# Altium footprint library FootPrintLib_2.PcbLib: 173 footprints (part 7 of 11)
Each footprint in its own frame and in the unit in brackets; x right, y up, seen from the top. Pads: shape width x height; smd on the part's side, far side on the other; paste and mask are expansions set on the pad; w line width, h text height; cw(c..) or ccw(c..) is an arc to the next point about the centre after c.
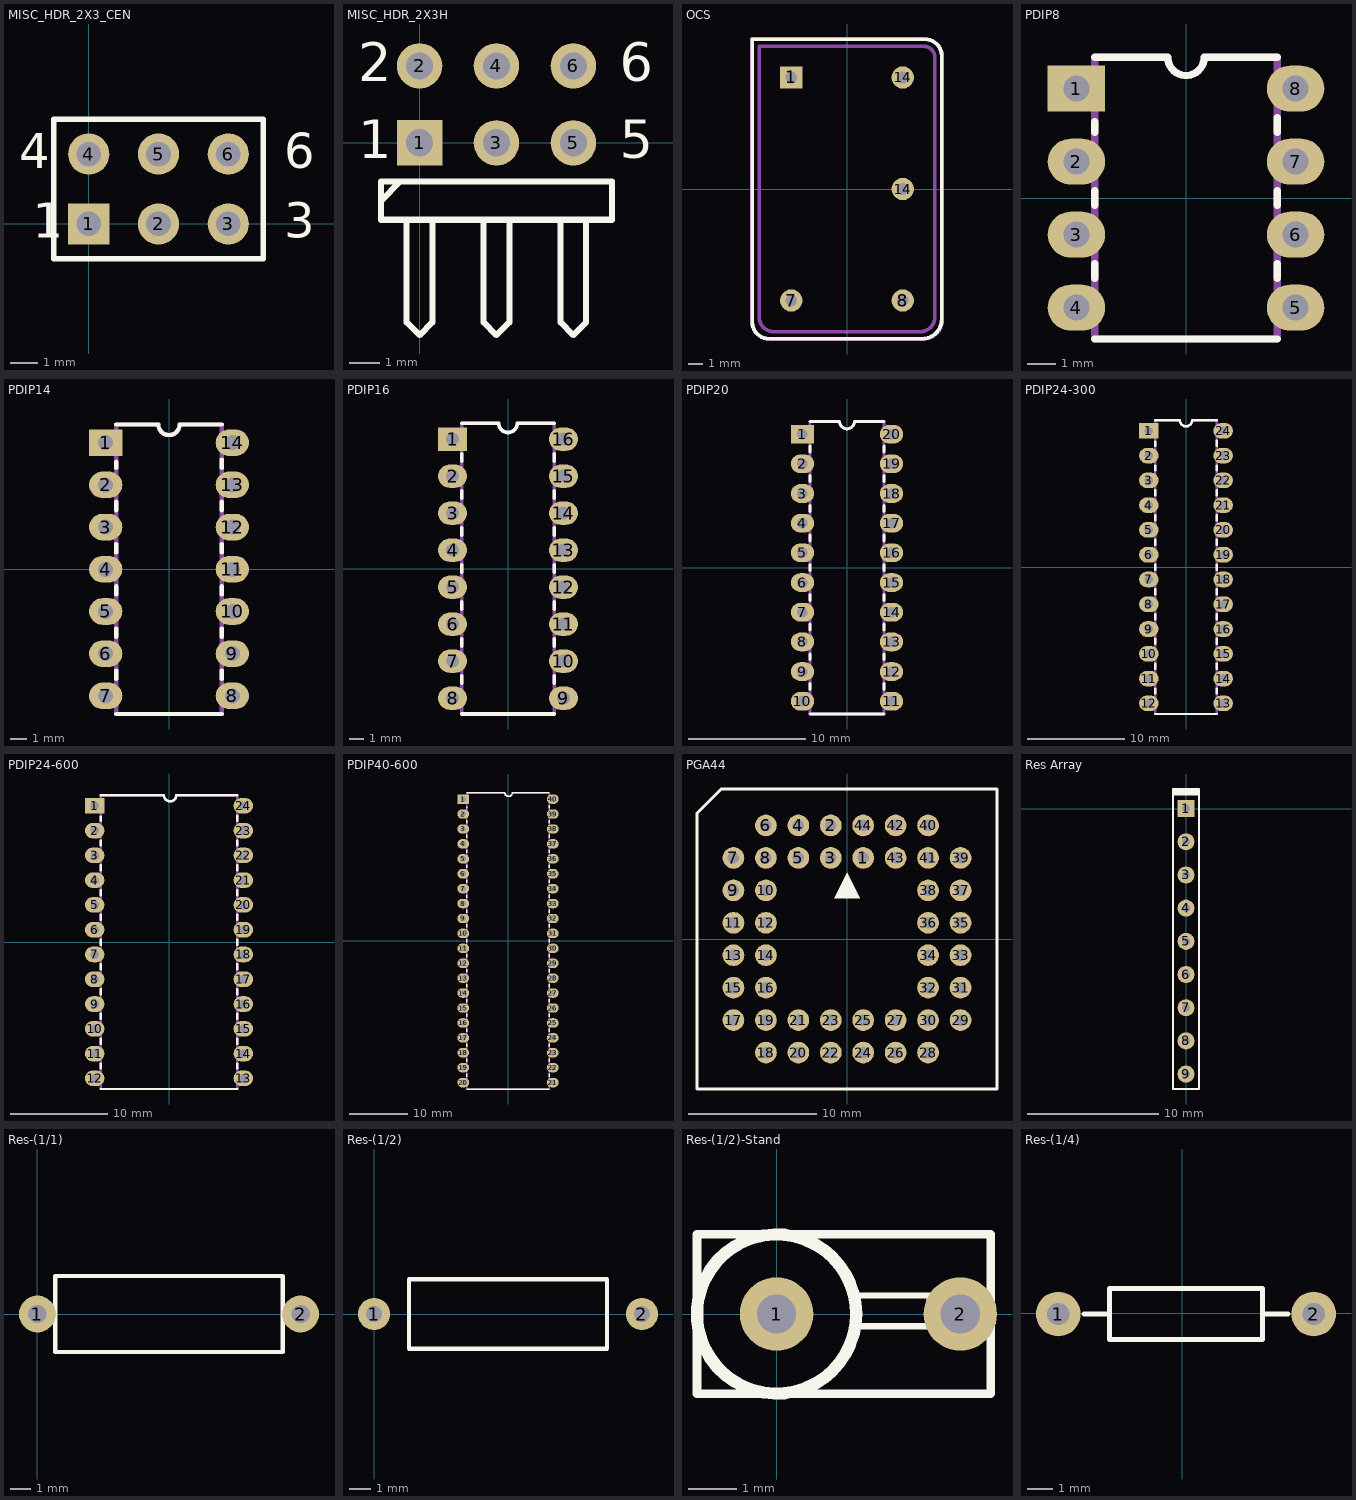
[diagram p6: the footprints below, top view; thin cyan lines are the x and y axes]

## MISC_HDR_2X3_CEN [mm] "Connector; Header; 3x2 Position"
pads (6):
  rect 1.5x1.5 hole 0.9: 1(0,0)
  round 1.5 hole 0.9: 2(2.54,0) 3(5.08,0) 4(0,2.54) 5(2.54,2.54) 6(5.08,2.54)
Top Overlay:
  lines w0.2: -1.27,-1.27 6.35,-1.27 6.35,3.81 -1.27,3.81 -1.27,-1.27
  text "6" at 7.112,2.032 h1.27
  text "3" at 7.112,-0.508 h1.27
  text "1" at -2.032,-0.508 h1.27
  text "4" at -2.54,2.032 h1.27
3D body "Header3.STEP": height 8.38, standoff -2.54, extent -1.27,-1.27 6.35,1.27
3D body "Header3.STEP": height 8.38, standoff -2.54, extent -1.27,1.27 6.35,3.81

## MISC_HDR_2X3H [mm] "Connector; Header; 3x2 Position; Right Angle"
pads (6):
  rect 1.5x1.5 hole 0.9: 1(0,0)
  round 1.5 hole 0.9: 2(0,2.54) 3(2.54,0) 4(2.54,2.54) 5(5.08,0) 6(5.08,2.54)
Top Overlay:
  lines w0.2: -1.27,-1.905 -0.635,-1.27 ; -0.423,-2.54 -0.423,-5.927 0,-6.35 0.423,-5.927 0.423,-2.54 ; 2.117,-2.54 2.117,-5.927 2.54,-6.35 2.963,-5.927 2.963,-2.54 ; 4.657,-2.54 4.657,-5.927 5.08,-6.35 5.503,-5.927 5.503,-2.54 ; -1.27,-2.54 -1.27,-1.27 6.35,-1.27 6.35,-2.54 -1.27,-2.54
  text "6" at 6.604,2.032 h1.27
  text "5" at 6.604,-0.508 h1.27
  text "1" at -2.032,-0.508 h1.27
  text "2" at -2.032,2.032 h1.27

## OCS [mil]
pads (5):
  rect 60x60 hole 32: 1(-150,300)
  round 60 hole 32: 7(-150,-300) 8(150,-300) 14(150,0) 14(150,300)
Top Overlay:
  lines w10: -255,-358 ccw(c-210,-358) -210,-403 202,-403 ccw(c202,-350) 255,-350 255,350 255,358 ccw(c210,358) 210,403 -210,403 -255,403 -255,350 -255,-350 -255,-358
Mechanical 1:
  circle w10: c-150,-300 r10
  circle w10: c150,-300 r10
  circle w10: c150,300 r10
  circle w10: c-150,300 r10
  lines w10: -255.91,-354.33 ccw(c-206.69,-354.33) -206.69,-403.54 206.69,-403.54 ccw(c206.69,-354.33) 255.91,-354.33 255.91,354.33 ccw(c206.69,354.33) 206.69,403.54 -255.91,403.54 -255.91,-354.33 ; -236.22,-344.49 ccw(c-196.85,-344.49) -196.85,-383.86 196.85,-383.86 ccw(c196.85,-344.49) 236.22,-344.49 236.22,354.33 ccw(c206.69,354.33) 206.69,383.86 -236.22,383.86 -236.22,-344.49
3D body: height 30, standoff 0, extent -255.89,-403.52 255.89,403.52
3D body: height 170, standoff 0, extent -236.2,-383.84 236.2,383.84
3D body: height 0, standoff -50, extent -159.98,-309.98 -140.02,-290.02
3D body: height 0, standoff -50, extent 140.02,-309.98 159.98,-290.02
3D body: height 0, standoff -50, extent -159.98,290.02 -140.02,309.98
3D body: height 0, standoff -50, extent 140.02,290.02 159.98,309.98

## PDIP8 [mm] "8-Pin Plastic DIP (PD8) NARROW_(300mil width) - 100mil pitch"
height 4.6
pads (8):
  rect 2x1.6 hole 0.9: 1(-3.81,3.81)
  oval 2x1.6 hole 0.9: 2(-3.81,1.27) 3(-3.81,-1.27) 4(-3.81,-3.81) 5(3.81,-3.81) 6(3.81,-1.27) 7(3.81,1.27) 8(3.81,3.81)
Top Overlay:
  lines w0.254: -3.175,-4.9 3.175,-4.9 ; -3.175,-2.794 -3.175,-2.286 ; -3.175,-0.254 -3.175,0.254 ; -3.175,2.286 -3.175,2.667 ; -3.175,4.9 -0.635,4.9 ccw(c0,4.9) 0.635,4.9 3.175,4.9 ; 3.175,-2.794 3.175,-2.286 ; 3.175,-0.254 3.175,0.254 ; 3.175,2.286 3.175,2.794
Mechanical 1:
  lines w0.254: -3.175,-4.9 3.175,-4.9 3.175,4.9 0.635,4.9 cw(c0,4.9) -0.635,4.9 -3.175,4.9 -3.175,-4.9
3D body "PDIP08-300.STEP": height 3.76, standoff -2, extent -3.935,-4.889 3.935,4.89

## PDIP14 [mm] "14-Pin Plastic DIP (DD14) NARROW_(300mil width) - 100mil pitch"
height 5.08
pads (14):
  rect 2x1.6 hole 0.9: 1(-3.81,7.62)
  oval 2x1.6 hole 0.9: 2(-3.81,5.08) 3(-3.81,2.54) 4(-3.81,0) 5(-3.81,-2.54) 6(-3.81,-5.08) 7(-3.81,-7.62) 8(3.81,-7.62) 9(3.81,-5.08) 10(3.81,-2.54) 11(3.81,0) 12(3.81,2.54) 13(3.81,5.08) 14(3.81,7.62)
Top Overlay:
  lines w0.254: -3.175,-8.71 3.175,-8.71 ; -3.175,-6.604 -3.175,-6.096 ; -3.175,-4.064 -3.175,-3.556 ; -3.175,-1.524 -3.175,-1.016 ; -3.175,1.016 -3.175,1.524 ; -3.175,3.556 -3.175,4.064 ; -3.175,6.096 -3.175,6.477 ; -3.175,8.71 -0.635,8.71 ccw(c0,8.71) 0.635,8.71 3.175,8.71 ; 3.175,-6.604 3.175,-6.096 ; 3.175,-4.064 3.175,-3.556 ; 3.175,-1.524 3.175,-1.016 ; 3.175,1.016 3.175,1.524 ; 3.175,3.556 3.175,4.064 ; 3.175,6.096 3.175,6.604
Mechanical 1:
  lines w0.254: -3.175,-8.71 3.175,-8.71 3.175,8.71 0.635,8.71 cw(c0,8.71) -0.635,8.71 -3.175,8.71 -3.175,-8.71
3D body "PDIP14-300.STEP": height 3.76, standoff -2, extent -3.935,-8.7 3.935,8.699

## PDIP16 [mm] "16-Pin Plastic DIP (DD16) NARROW_(300mil width) - 100mil pitch"
height 5.08
pads (16):
  rect 2x1.6 hole 0.9: 1(-3.81,8.89)
  oval 2x1.6 hole 0.9: 2(-3.81,6.35) 3(-3.81,3.81) 4(-3.81,1.27) 5(-3.81,-1.27) 6(-3.81,-3.81) 7(-3.81,-6.35) 8(-3.81,-8.89) 9(3.81,-8.89) 10(3.81,-6.35) 11(3.81,-3.81) 12(3.81,-1.27) 13(3.81,1.27) 14(3.81,3.81) 15(3.81,6.35) 16(3.81,8.89)
Top Overlay:
  lines w0.254: -3.175,-9.98 3.175,-9.98 ; -3.175,-7.874 -3.175,-7.366 ; -3.175,-5.334 -3.175,-4.826 ; -3.175,-2.794 -3.175,-2.286 ; -3.175,-0.254 -3.175,0.254 ; -3.175,2.286 -3.175,2.794 ; -3.175,4.826 -3.175,5.334 ; -3.175,7.366 -3.175,7.874 ; -3.175,9.98 -0.635,9.98 ccw(c0,9.98) 0.635,9.98 3.175,9.98 ; 3.175,-7.874 3.175,-7.366 ; 3.175,-5.334 3.175,-4.826 ; 3.175,-2.794 3.175,-2.286 ; 3.175,-0.254 3.175,0.254 ; 3.175,2.286 3.175,2.794 ; 3.175,4.826 3.175,5.334 ; 3.175,7.366 3.175,7.874
Mechanical 1:
  lines w0.254: -3.175,-9.98 -3.175,9.98 -0.635,9.98 ccw(c0,9.98) 0.635,9.98 3.175,9.98 3.175,-9.98 -3.175,-9.98
3D body "PDIP16-300.STEP": height 3.76, standoff -2, extent -3.935,-9.969 3.935,9.97

## PDIP20 [mm] "20-Pin Plastic DIP (DD20) NARROW_(300mil width) - 100mil pitch"
height 5.08
pads (20):
  rect 2x1.6 hole 0.9: 1(-3.81,11.43)
  oval 2x1.6 hole 0.9: 2(-3.81,8.89) 3(-3.81,6.35) 4(-3.81,3.81) 5(-3.81,1.27) 6(-3.81,-1.27) 7(-3.81,-3.81) 8(-3.81,-6.35) 9(-3.81,-8.89) 10(-3.81,-11.43) 11(3.81,-11.43) 12(3.81,-8.89) 13(3.81,-6.35) 14(3.81,-3.81) 15(3.81,-1.27) 16(3.81,1.27) 17(3.81,3.81) 18(3.81,6.35) 19(3.81,8.89) 20(3.81,11.43)
Top Overlay:
  lines w0.254: -3.175,-12.52 3.175,-12.52 ; -3.175,-10.414 -3.175,-9.906 ; -3.175,-7.874 -3.175,-7.366 ; -3.175,-5.334 -3.175,-4.826 ; -3.175,-2.794 -3.175,-2.286 ; -3.175,-0.254 -3.175,0.254 ; -3.175,2.286 -3.175,2.794 ; -3.175,4.826 -3.175,5.334 ; -3.175,7.366 -3.175,7.874 ; -3.175,9.906 -3.175,10.414 ; -3.175,12.52 -0.635,12.52 ccw(c0,12.52) 0.635,12.52 3.175,12.52 ; 3.175,-10.414 3.175,-9.906 ; 3.175,-7.874 3.175,-7.366 ; 3.175,-5.334 3.175,-4.826 ; 3.175,-2.794 3.175,-2.286 ; 3.175,-0.254 3.175,0.254 ; 3.175,2.286 3.175,2.794 ; 3.175,4.826 3.175,5.334 ; 3.175,7.366 3.175,7.874 ; 3.175,9.906 3.175,10.414
Mechanical 1:
  lines w0.254: -3.175,-12.52 -3.175,12.52 -0.635,12.52 ccw(c0,12.52) 0.635,12.52 3.175,12.52 3.175,-12.52 -3.175,-12.52
3D body "PDIP20-300.STEP": height 3.76, standoff -2, extent -3.935,-12.509 3.935,12.509

## PDIP24-300 [mm] "24-Pin Plastic DIP (DD24) - NARROW_(300mil width) - 100mil pitch"
height 5.08
pads (24):
  rect 2x1.6 hole 0.9: 1(-3.81,13.97)
  oval 2x1.6 hole 0.9: 2(-3.81,11.43) 3(-3.81,8.89) 4(-3.81,6.35) 5(-3.81,3.81) 6(-3.81,1.27) 7(-3.81,-1.27) 8(-3.81,-3.81) 9(-3.81,-6.35) 10(-3.81,-8.89) 11(-3.81,-11.43) 12(-3.81,-13.97) 13(3.81,-13.97) 14(3.81,-11.43) 15(3.81,-8.89) 16(3.81,-6.35) 17(3.81,-3.81) 18(3.81,-1.27) 19(3.81,1.27) 20(3.81,3.81) 21(3.81,6.35) 22(3.81,8.89) 23(3.81,11.43) 24(3.81,13.97)
Top Overlay:
  lines w0.254: -3.175,-15.06 3.175,-15.06 ; -3.175,-12.954 -3.175,-12.446 ; -3.175,-10.414 -3.175,-9.906 ; -3.175,-7.874 -3.175,-7.366 ; -3.175,-5.334 -3.175,-4.826 ; -3.175,-2.794 -3.175,-2.286 ; -3.175,-0.254 -3.175,0.254 ; -3.175,2.286 -3.175,2.794 ; -3.175,4.826 -3.175,5.334 ; -3.175,7.366 -3.175,7.874 ; -3.175,9.906 -3.175,10.414 ; -3.175,12.446 -3.175,12.827 ; -3.175,15.06 -0.635,15.06 ccw(c0,15.06) 0.635,15.06 3.175,15.06 ; 3.175,-12.954 3.175,-12.446 ; 3.175,-10.414 3.175,-9.906 ; 3.175,-7.874 3.175,-7.366 ; 3.175,-5.334 3.175,-4.826 ; 3.175,-2.794 3.175,-2.286 ; 3.175,-0.254 3.175,0.254 ; 3.175,2.286 3.175,2.794 ; 3.175,4.826 3.175,5.334 ; 3.175,7.366 3.175,7.874 ; 3.175,9.906 3.175,10.414 ; 3.175,12.446 3.175,12.954
Mechanical 1:
  lines w0.254: -3.175,-15.06 -3.175,15.06 -0.635,15.06 ccw(c0,15.06) 0.635,15.06 3.175,15.06 3.175,-15.06 -3.175,-15.06
3D body "PDIP24-300.STEP": height 3.76, standoff -2, extent -3.935,-15.049 3.935,15.049

## PDIP24-600 [mm] "24-Pin Plastic DIP (DD24) - WIDE_(600mil width) - 100mil pitch"
height 5.08
pads (24):
  rect 2x1.6 hole 0.9: 1(-7.62,13.97)
  oval 2x1.6 hole 0.9: 2(-7.62,11.43) 3(-7.62,8.89) 4(-7.62,6.35) 5(-7.62,3.81) 6(-7.62,1.27) 7(-7.62,-1.27) 8(-7.62,-3.81) 9(-7.62,-6.35) 10(-7.62,-8.89) 11(-7.62,-11.43) 12(-7.62,-13.97) 13(7.62,-13.97) 14(7.62,-11.43) 15(7.62,-8.89) 16(7.62,-6.35) 17(7.62,-3.81) 18(7.62,-1.27) 19(7.62,1.27) 20(7.62,3.81) 21(7.62,6.35) 22(7.62,8.89) 23(7.62,11.43) 24(7.62,13.97)
Top Overlay:
  lines w0.254: -6.985,-15.06 6.985,-15.06 ; -6.985,-12.954 -6.985,-12.446 ; -6.985,-10.414 -6.985,-9.906 ; -6.985,-7.874 -6.985,-7.366 ; -6.985,-5.334 -6.985,-4.826 ; -6.985,-2.794 -6.985,-2.286 ; -6.985,-0.254 -6.985,0.254 ; -6.985,2.286 -6.985,2.794 ; -6.985,4.826 -6.985,5.334 ; -6.985,7.366 -6.985,7.874 ; -6.985,9.906 -6.985,10.414 ; -6.985,12.446 -6.985,12.827 ; -6.985,15.06 -0.521,15.06 ccw(c0.114,15.06) 0.749,15.06 6.985,15.06 ; 6.985,-12.954 6.985,-12.446 ; 6.985,-10.414 6.985,-9.906 ; 6.985,-7.874 6.985,-7.366 ; 6.985,-5.334 6.985,-4.826 ; 6.985,-2.794 6.985,-2.286 ; 6.985,-0.254 6.985,0.254 ; 6.985,2.286 6.985,2.794 ; 6.985,4.826 6.985,5.334 ; 6.985,7.366 6.985,7.874 ; 6.985,9.906 6.985,10.414 ; 6.985,12.446 6.985,12.954
Mechanical 1:
  lines w0.254: -6.985,-15.06 6.985,-15.06 6.985,15.06 0.749,15.06 cw(c0.114,15.06) -0.521,15.06 -6.985,15.06 -6.985,-15.06
3D body "PDIP24-600.STEP": height 3.76, standoff -2, extent -7.745,-15.05 7.745,15.049

## PDIP40-600 [mm] "40-Pin Plastic DIP (DD40) - WIDE_(600mil width) - 100mil pitch"
height 5.08
pads (40):
  rect 2x1.6 hole 0.9: 1(-7.62,24.13)
  oval 2x1.6 hole 0.9: 2(-7.62,21.59) 3(-7.62,19.05) 4(-7.62,16.51) 5(-7.62,13.97) 6(-7.62,11.43) 7(-7.62,8.89) 8(-7.62,6.35) 9(-7.62,3.81) 10(-7.62,1.27) 11(-7.62,-1.27) 12(-7.62,-3.81) 13(-7.62,-6.35) 14(-7.62,-8.89) 15(-7.62,-11.43) 16(-7.62,-13.97) 17(-7.62,-16.51) 18(-7.62,-19.05) 19(-7.62,-21.59) 20(-7.62,-24.13) 21(7.62,-24.13) 22(7.62,-21.59) 23(7.62,-19.05) 24(7.62,-16.51) 25(7.62,-13.97) 26(7.62,-11.43) 27(7.62,-8.89) 28(7.62,-6.35) 29(7.62,-3.81) 30(7.62,-1.27) 31(7.62,1.27) 32(7.62,3.81) 33(7.62,6.35) 34(7.62,8.89) 35(7.62,11.43) 36(7.62,13.97) 37(7.62,16.51) 38(7.62,19.05) 39(7.62,21.59) 40(7.62,24.13)
Top Overlay:
  lines w0.254: -6.985,-25.22 6.985,-25.22 ; -6.985,-23.114 -6.985,-22.606 ; -6.985,-20.574 -6.985,-20.066 ; -6.985,-18.034 -6.985,-17.526 ; -6.985,-15.494 -6.985,-14.986 ; -6.985,-12.954 -6.985,-12.446 ; -6.985,-10.414 -6.985,-9.906 ; -6.985,-7.874 -6.985,-7.366 ; -6.985,-5.334 -6.985,-4.826 ; -6.985,-2.794 -6.985,-2.286 ; -6.985,-0.254 -6.985,0.254 ; -6.985,2.286 -6.985,2.794 ; -6.985,4.826 -6.985,5.334 ; -6.985,7.366 -6.985,7.874 ; -6.985,9.906 -6.985,10.414 ; -6.985,12.446 -6.985,12.954 ; -6.985,14.986 -6.985,15.494 ; -6.985,17.526 -6.985,18.034 ; -6.985,20.066 -6.985,20.574 ; -6.985,22.606 -6.985,22.86 ; -6.985,25.22 -0.521,25.22 ccw(c0.114,25.22) 0.749,25.22 6.985,25.22 ; 6.985,-23.114 6.985,-22.606 ; 6.985,-20.574 6.985,-20.066 ; 6.985,-18.034 6.985,-17.526 ; 6.985,-15.494 6.985,-14.986 ; 6.985,-12.954 6.985,-12.446 ; 6.985,-10.414 6.985,-9.906 ; 6.985,-7.874 6.985,-7.366 ; 6.985,-5.334 6.985,-4.826 ; 6.985,-2.794 6.985,-2.286 ; 6.985,-0.254 6.985,0.254 ; 6.985,2.286 6.985,2.794 ; 6.985,4.826 6.985,5.334 ; 6.985,7.366 6.985,7.874 ; 6.985,9.906 6.985,10.414 ; 6.985,12.446 6.985,12.954 ; 6.985,14.986 6.985,15.494 ; 6.985,17.526 6.985,18.034 ; 6.985,20.066 6.985,20.574 ; 6.985,22.606 6.985,23.114
Mechanical 1:
  lines w0.254: -6.985,-25.22 6.985,-25.22 6.985,25.22 0.749,25.22 cw(c0.114,25.22) -0.521,25.22 -6.985,25.22 -6.985,-25.22
3D body "PDIP40-600.STEP": height 3.76, standoff -2, extent -7.745,-25.209 7.745,25.21

## PGA44 [mm] "PLCC Socket with 44 Positions"
height 7.75
pads (44):
  round 1.7 hole 0.9: 1(1.27,6.35) 2(-1.27,8.89) 3(-1.27,6.35) 4(-3.81,8.89) 5(-3.81,6.35) 6(-6.35,8.89) 7(-8.89,6.35) 8(-6.35,6.35) 9(-8.89,3.81) 10(-6.35,3.81) 11(-8.89,1.27) 12(-6.35,1.27) 13(-8.89,-1.27) 14(-6.35,-1.27) 15(-8.89,-3.81) 16(-6.35,-3.81) 17(-8.89,-6.35) 18(-6.35,-8.89) 19(-6.35,-6.35) 20(-3.81,-8.89) 21(-3.81,-6.35) 22(-1.27,-8.89) 23(-1.27,-6.35) 24(1.27,-8.89) 25(1.27,-6.35) 26(3.81,-8.89) 27(3.81,-6.35) 28(6.35,-8.89) 29(8.89,-6.35) 30(6.35,-6.35) 31(8.89,-3.81) 32(6.35,-3.81) 33(8.89,-1.27) 34(6.35,-1.27) 35(8.89,1.27) 36(6.35,1.27) 37(8.89,3.81) 38(6.35,3.81) 39(8.89,6.35) 40(6.35,8.89) 41(6.35,6.35) 42(3.81,8.89) 43(3.81,6.35) 44(1.27,8.89)
Top Overlay:
  region: 0,5.207 1.016,3.175 -1.016,3.175
  lines w0.254: -11.747,-11.747 11.747,-11.747 11.747,11.747 -9.842,11.747 -11.747,9.842 -11.747,-11.747
3D body "Full PLCC 44 Socket.STEP": height 7.68, standoff -2.44, extent -11.764,-11.731 11.731,11.764

## Res Array [mm]
pads (9):
  rect 1.3x1.3 hole 0.6: 1(0,0)
  round 1.3 hole 0.6: 2(0,-2.54) 3(0,-5.08) 4(0,-7.62) 5(0,-10.16) 6(0,-12.7) 7(0,-15.24) 8(0,-17.78) 9(0,-20.32)
Top Overlay:
  rectangle: -1,1 1,1.5
  lines w0.178: -1,-21.463 1,-21.463 1,1.5 -1,1.5 -1,-21.463
3D body "SW3dPS-80015102.step": height 5.4, standoff -3.1, extent -0.625,-21.375 0.625,1.125

## Res-(1/1) [mil]
pads (2):
  round 70 hole 35: 1(0,0) 2(500,0)
Top Overlay:
  lines w7.87: 34,-72 466,-72 466,72 34,72 34,-72
3D body "Res_Normal (1W).STEP": height 150.74, standoff -78.74, extent -10.5,-71 514.5,73

## Res-(1/2) [mil]
pads (2):
  round 60 hole 30: 1(0,0) 2(500,0)
Top Overlay:
  lines w7.87: 65,-65 65,65 435,65 435,-65 65,-65
3D body: height 135.48, standoff 4, extent 365,-66 395,65.74
3D body: height 135.48, standoff 4, extent 162.5,-66 192.5,65.74
3D body: height 135.48, standoff 4, extent 100,-66 130,65.74
3D body: height 135.48, standoff 4, extent 225,-66 255,65.74
3D body: height 134.49, standoff 5, extent 65,-65 435,64.74
3D body: height 70, standoff -80, extent -12.4,-12.47 12.5,12.48
3D body: height 82.4, standoff 57.5, extent 0,-12.48 500,12.48
3D body: height 82.5, standoff 57.5, extent -12.37,-12.44 12.5,12.45
3D body: height 70, standoff -80, extent 487.6,-12.47 512.5,12.48
3D body: height 82.5, standoff 57.5, extent 487.63,-12.44 512.5,12.45

## Res-(1/2)-Stand [mil]
pads (2):
  round 60 hole 32: 1(0,0) 2(150,0)
Top Overlay:
  circle w10: c0,0 r65
  lines w5: 65,-10 125,-10 125,15 65,15
  lines w7: -65,-65 -65,65 175,65 175,-65 -65,-65
3D body: height 350, standoff 320, extent -65.48,-65.87 66,65.87
3D body: height 180, standoff 150, extent -65.48,-65.87 66,65.87
3D body: height 130, standoff 100, extent -65.48,-65.87 66,65.87
3D body: height 80, standoff 50, extent -65.48,-65.87 66,65.87
3D body: height 433, standoff 407, extent 137.14,-12.95 163,12.94
3D body: height 420, standoff -80, extent -12.89,-12.97 13,12.98
3D body: height 380, standoff 20, extent -64.48,-64.87 65,64.87
3D body: height 432.9, standoff 407, extent 0,-12.97 150,12.97
3D body: height 420, standoff -80, extent 137.11,-12.97 163.01,12.98
3D body: height 433, standoff 407, extent -12.86,-12.94 13,12.95

## Res-(1/4) [mil]
pads (2):
  round 70 hole 35: 1(-194,-1) 2(206,-1)
Top Overlay:
  lines w7.87: -154,-1 -114,-1 ; 126,-1 166,-1 ; -114,-41 -114,39 126,39 126,-41 -114,-41
3D body "1K.STEP": height 94.18, standoff -78.74, extent -203.69,-47.57 216,47